# EAGLE library part PINHD-2X3 (library Pin Header)
PIN HEADER
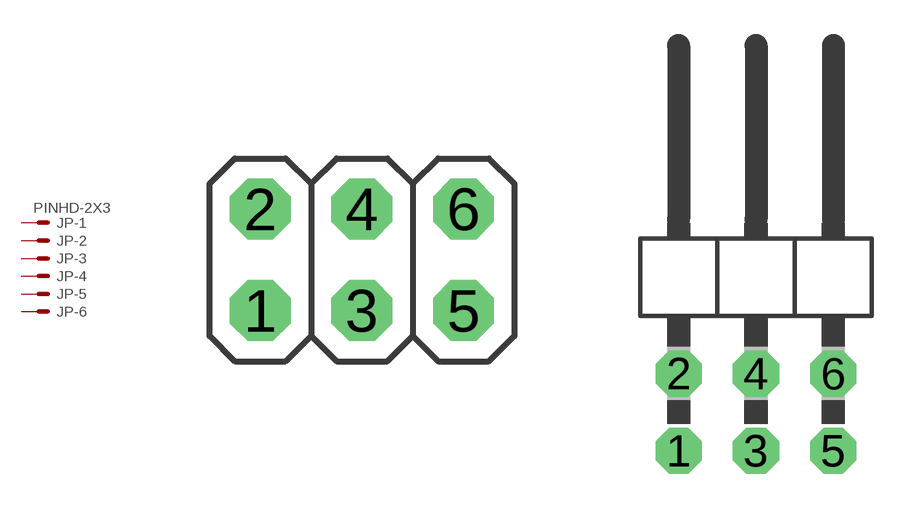
[diagram p32: symbol with the pads of 2X03; footprints 2X03, 2X03/90]

Designator prefix JP; gates -1=KV -2=K -3=K -4=K -5=K -6=K

## PINHD-2X3  [2X03]
1  -1:S  pas
2  -2:S  pas
3  -3:S  pas
4  -4:S  pas
5  -5:S  pas
6  -6:S  pas

## PINHD-2X3/90  [2X03/90]
Pads as for 2X03

## PINHD-2X3/SMD  [2X03/SMD]
Pads as for 2X03

## Footprint 2X03 (pad centres in mm)
PIN HEADER
drill 1.016 octagon: 1 -2.54,-1.27; 2 -2.54,1.27; 3 0,-1.27; 4 0,1.27; 5 2.54,-1.27; 6 2.54,1.27

## Footprint 2X03/90 (pad centres in mm)
PIN HEADER
drill 1.016 octagon: 1 -2.54,-6.35; 2 -2.54,-3.81; 3 0,-6.35; 4 0,-3.81; 5 2.54,-6.35; 6 2.54,-3.81

## Footprint 2X03/SMD (pad centres in mm)
PIN HEADER
smd 1.02 x 3.12: 1 -2.54,-2.69; 2 -2.54,2.69; 3 0,-2.69; 4 0,2.69; 5 2.54,-2.69; 6 2.54,2.69